# Altium schematic symbol library Electrolytic Capacitor.SchLib: 31 symbols
Pins are listed as number, name and electrical type; pins without a type are passive.

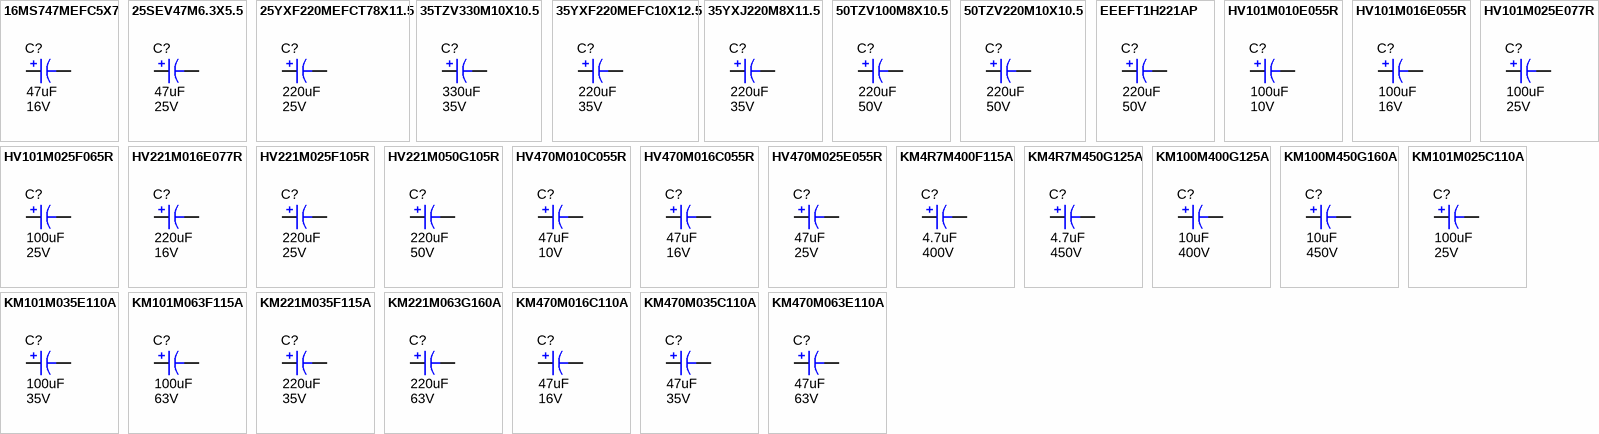
[diagram p0: symbols 16MS747MEFC5X7 to KM470M063E110A]

## 16MS747MEFC5X7
designator C?, comment Max voltage: 16V  (hidden comment: 47uF)
Electrolytic; Global part number: 16MS747MEFC5X7; Manufacturer: rubycon; Tolerance_%: 20; Mount type: AI; Size: 5*7; Value: 47uF
footprint CAPPR2-5X7
pins: 1 +, 2 -

## 25SEV47M6.3X5.5
designator C?, comment Max voltage: 25V  (hidden comment: 47uF)
Electrolytic; Global part number: 25SEV47M6.3X5.5; Manufacturer: rubycon; Tolerance_%: 20; Mount type: SMT; Size: 6.3*5.5; Value: 47uF
footprint C6.3X5.5-AECAP
pins: 1 +, 2 -

## 25YXF220MEFCT78X11.5
designator C?, comment Max voltage: 25V  (hidden comment: 220uF)
Electrolytic; Global part number: 25YXF220MEFCT78X11.5; Manufacturer: rubycon; Tolerance_%: 20; Mount type: AI; Size: 8*11.5; Value: 220uF
footprint CAPPR3.5-8X11.5
pins: 1 +, 2 -

## 35TZV330M10X10.5
designator C?, comment Max voltage: 35V  (hidden comment: 330uF)
Electrolytic; Global part number: 35TZV330M10X10.5; Manufacturer: rubycon; Tolerance_%: 20; Mount type: SMT; Size: 8*10.5; Value: 330uF
footprint C10X10.5-AECAP
pins: 1 +, 2 -

## 35YXF220MEFC10X12.5
designator C?, comment Max voltage: 35V  (hidden comment: 220uF)
Electrolytic; Global part number: 35YXF220MEFC10X12.5; Manufacturer: rubycon; Tolerance_%: 20; Mount type: AI; Size: 10*12.5; Value: 220uF
footprint CAPPR5-10.5X13
pins: 1 +, 2 -

## 35YXJ220M8X11.5
designator C?, comment Max voltage: 35V  (hidden comment: 220uF)
Electrolytic; Global part number: 35YXJ220M8X11.5; Manufacturer: rubycon; Tolerance_%: 20; Mount type: AI; Size: 8*11.5; Value: 220uF
footprint CAPPR3.5-8X11.5
pins: 1 +, 2 -

## 50TZV100M8X10.5
designator C?, comment Max voltage: 50V  (hidden comment: 220uF)
Electrolytic; Global part number: 50TZV100M8X10.5; Manufacturer: rubycon; Tolerance_%: 20; Mount type: SMT; Size: 8*10.5; Value: 220uF
footprint C8X10.5-AECAP
pins: 1 +, 2 -

## 50TZV220M10X10.5
designator C?, comment Max voltage: 50V  (hidden comment: 220uF)
Electrolytic; Global part number: 50TZV220M10X10.5; Manufacturer: rubycon; Tolerance_%: 20; Mount type: SMT; Size: 10*10.5; Value: 220uF
footprint C10X10.5-AECAP
pins: 1 +, 2 -

## EEEFT1H221AP
designator C?, comment Max voltage: 50V  (hidden comment: 220uF)
Electrolytic; Global part number: EEEFT1H221AP; Manufacturer: PANASONIC; Tolerance_%: 20; Mount type: SMT; Size: 10*10.5; Value: 220uF
footprint C8X10.5-AECAP
pins: 1 +, 2 -

## HV101M010E055R
designator C?, comment Max voltage: 10V  (hidden comment: 100uF)
Electrolytic; Global part number: HV101M010E055R; Manufacturer: CapXon; Tolerance_%: 20; Mount type: SMT; Size: 6.3*5.5; Value: 100uF
footprint C6.3X5.5-AECAP
pins: 1 +, 2 -

## HV101M016E055R
designator C?, comment Max voltage: 16V  (hidden comment: 100uF)
Electrolytic; Global part number: HV101M016E055R; Manufacturer: CapXon; Tolerance_%: 20; Mount type: SMT; Size: 6.3*5.5; Value: 100uF
footprint C6.3X5.5-AECAP
pins: 1 +, 2 -

## HV101M025E077R
designator C?, comment Max voltage: 25V  (hidden comment: 100uF)
Electrolytic; Global part number: HV101M025E077R; Manufacturer: CapXon; Tolerance_%: 20; Mount type: SMT; Size: 6.3*7.7; Value: 100uF
footprint C6.3X7.7-AECAP
pins: 1 +, 2 -

## HV101M025F065R
designator C?, comment Max voltage: 25V  (hidden comment: 100uF)
Electrolytic; Global part number: HV101M025F065R; Manufacturer: CapXon; Tolerance_%: 20; Mount type: SMT; Size: 8*6.5; Value: 100uF
footprint C8X10-AECAP
pins: 1 +, 2 -

## HV221M016E077R
designator C?, comment Max voltage: 16V  (hidden comment: 220uF)
Electrolytic; Global part number: HV221M016E077R; Manufacturer: CapXon; Tolerance_%: 20; Mount type: SMT; Size: 6.3*7.7; Value: 220uF
footprint C6.3X7.7-AECAP
pins: 1 +, 2 -

## HV221M025F105R
designator C?, comment Max voltage: 25V  (hidden comment: 220uF)
Electrolytic; Global part number: HV221M025F105R; Manufacturer: CapXon; Tolerance_%: 20; Mount type: SMT; Size: 8*10.5; Value: 220uF
footprint C8X10.5-AECAP
pins: 1 +, 2 -

## HV221M050G105R
designator C?, comment Max voltage: 50V  (hidden comment: 220uF)
Electrolytic; Global part number: HV221M050G105R; Manufacturer: CapXon; Tolerance_%: 20; Mount type: SMT; Size: 10*10.5; Value: 220uF
footprint C10X10.5-AECAP
pins: 1 +, 2 -

## HV470M010C055R
designator C?, comment Max voltage: 10V  (hidden comment: 47uF)
Electrolytic; Global part number: HV470M010C055R; Manufacturer: CapXon; Tolerance_%: 20; Mount type: SMT; Size: 5*5.5; Value: 47uF
footprint C5X5.5-AECAP
pins: 1 +, 2 -

## HV470M016C055R
designator C?, comment Max voltage: 16V  (hidden comment: 47uF)
Electrolytic; Global part number: HV470M016C055R; Manufacturer: CapXon; Tolerance_%: 20; Mount type: SMT; Size: 5*5.5; Value: 47uF
footprint C5X5.5-AECAP
pins: 1 +, 2 -

## HV470M025E055R
designator C?, comment Max voltage: 25V  (hidden comment: 47uF)
Electrolytic; Global part number: HV470M025E055R; Manufacturer: CapXon; Tolerance_%: 20; Mount type: SMT; Size: 6.3*5.5; Value: 47uF
footprint C6.3X5.5-AECAP
pins: 1 +, 2 -

## KM4R7M400F115A
designator C?, comment Max voltage: 400V  (hidden comment: 4.7uF)
Electrolytic; Global part number: KM4R7M400F115A; Manufacturer: CapXon; Tolerance_%: 20; Mount type: AI; Size: 8*11.5; Value: 4.7uF
footprint CAPPR3.5-8X11.5
pins: 1 +, 2 -

## KM4R7M450G125A
designator C?, comment Max voltage: 450V  (hidden comment: 4.7uF)
Electrolytic; Global part number: KM4R7M450G125A; Manufacturer: CapXon; Tolerance_%: 20; Mount type: AI; Size: 10*12.5; Value: 4.7uF
footprint CAPPR5-10X12.5
pins: 1 +, 2 -

## KM100M400G125A
designator C?, comment Max voltage: 400V  (hidden comment: 10uF)
Electrolytic; Global part number: KM100M400G125A; Manufacturer: CapXon; Tolerance_%: 20; Mount type: AI; Size: 10*12.5; Value: 10uF
footprint CAPPR5-10X12.5
pins: 1 +, 2 -

## KM100M450G160A
designator C?, comment Max voltage: 450V  (hidden comment: 10uF)
Electrolytic; Global part number: KM100M450G160A; Manufacturer: CapXon; Tolerance_%: 20; Mount type: AI; Size: 10*16; Value: 10uF
footprint CAPPR5-10X16
pins: 1 +, 2 -

## KM101M025C110A
designator C?, comment Max voltage: 25V  (hidden comment: 100uF)
Electrolytic; Global part number: KM101M025C110A; Manufacturer: CapXon; Tolerance_%: 20; Mount type: AI; Size: 5*11; Value: 100uF
footprint CAPPR2-5X11
pins: 1 +, 2 -

## KM101M035E110A
designator C?, comment Max voltage: 35V  (hidden comment: 100uF)
Electrolytic; Global part number: KM101M035E110A; Manufacturer: CapXon; Tolerance_%: 20; Mount type: AI; Size: 6.3*11.5; Value: 100uF
footprint CAPPR2.5-6.3X11.2
pins: 1 +, 2 -

## KM101M063F115A
designator C?, comment Max voltage: 63V  (hidden comment: 100uF)
Electrolytic; Global part number: KM101M063F115A; Manufacturer: CapXon; Tolerance_%: 20; Mount type: AI; Size: 8*11.5; Value: 100uF
footprint CAPPR3.5-8X11.5
pins: 1 +, 2 -

## KM221M035F115A
designator C?, comment Max voltage: 35V  (hidden comment: 220uF)
Electrolytic; Global part number: KM221M035F115A; Manufacturer: CapXon; Tolerance_%: 20; Mount type: AI; Size: 8*11.5; Value: 220uF
footprint CAPPR3.5-8X11.5
pins: 1 +, 2 -

## KM221M063G160A
designator C?, comment Max voltage: 63V  (hidden comment: 220uF)
Electrolytic; Global part number: KM221M063G160A; Manufacturer: CapXon; Tolerance_%: 20; Mount type: AI; Size: 10*16; Value: 220uF
footprint CAPPR5-10.5X17.5
pins: 1 +, 2 -

## KM470M016C110A
designator C?, comment Max voltage: 16V  (hidden comment: 47uF)
Electrolytic; Global part number: KM470M016C110A; Manufacturer: CapXon; Tolerance_%: 20; Mount type: AI; Size: 5*11; Value: 47uF
footprint CAPPR2-5X11
pins: 1 +, 2 -

## KM470M035C110A
designator C?, comment Max voltage: 35V  (hidden comment: 47uF)
Electrolytic; Global part number: KM470M035C110A; Manufacturer: CapXon; Tolerance_%: 20; Mount type: AI; Size: 5*11; Value: 47uF
footprint CAPPR2-5X11
pins: 1 +, 2 -

## KM470M063E110A
designator C?, comment Max voltage: 63V  (hidden comment: 47uF)
Electrolytic; Global part number: KM470M063E110A; Manufacturer: CapXon; Tolerance_%: 20; Mount type: AI; Size: 6.3*11.5; Value: 47uF
footprint CAPPR2.5-6.3X11.2
pins: 1 +, 2 -